# Altium schematic symbol library WCAP-AS5H.SchLib: 50 symbols
Pins are listed as number, name and electrical type; pins without a type are passive.

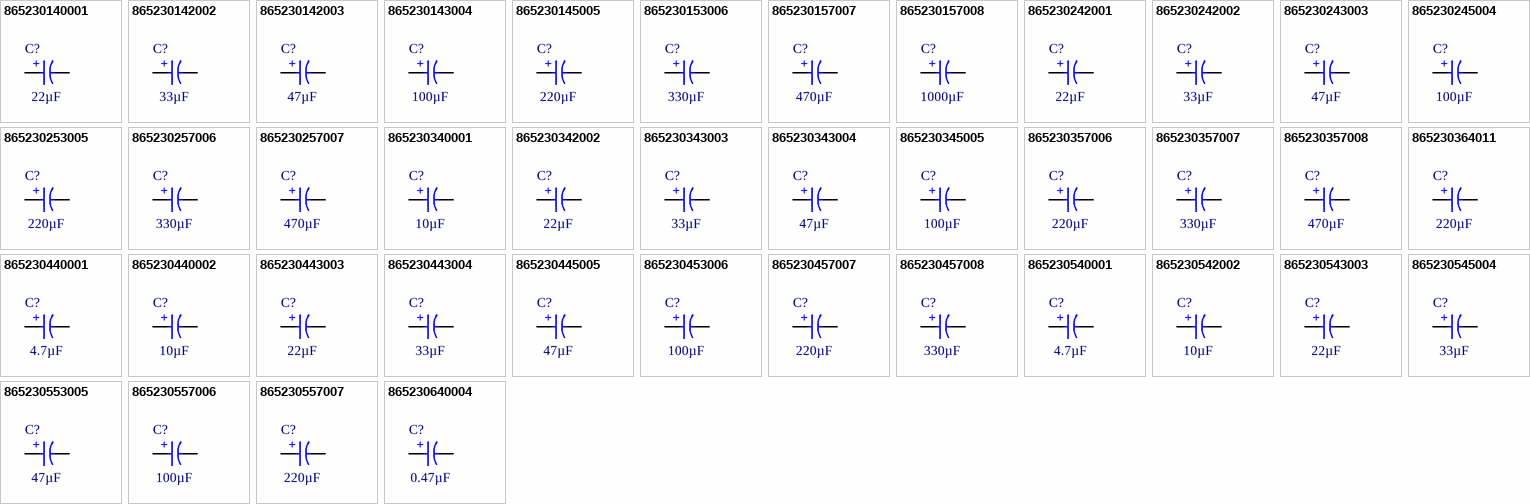
[diagram p0: symbols 865230140001 to 865230640004]

## 865230140001
designator C?, comment 22µF
WCAP-AS5H Aluminum Electrolytic Capacitor, V-Chip, D4 x H5.5mm, 22µF, 6.3V; Manufacturer Part Number: 865230140001; Manufacturer: Wurth Elektronik; Capacitance Tolerance: +/-20%; Dissipation Factor: 32%; Endurance: 5000h; Leakage Current: 3µA; Ripple Current: 22mA; Category: Aluminum Electrolytic Capacitors; Match Code: WCAP-AS5H; ComponentLink1Description: Website Link; ComponentLink1URL: https://www.we-online.com/redexpert/article/865230140001?ad; ComponentLink2Description: Datasheet Link; ComponentLink2URL: https://www.we-online.com/redexpert/spec/865230140001?ad; Mount: Surface Mount; Min Operating Temperature: -40°C; Max Operating Temperature: 105°C; Packaging: Tape and Reel; Height: 5.5mm; Diameter: 4mm; Capacitance: 22µF; Rated Voltage (DC): 6.3V
footprint WCAP-AS5H_D4H5.5
simulation model 865230140001_22uF
pins: 1 P, 2 N
text: +

## 865230142002
designator C?, comment 33µF
WCAP-AS5H Aluminum Electrolytic Capacitor, V-Chip, D5 x H5.5mm, 33µF, 6.3V; Manufacturer Part Number: 865230142002; Manufacturer: Wurth Elektronik; Capacitance Tolerance: +/-20%; Dissipation Factor: 32%; Endurance: 5000h; Leakage Current: 3µA; Ripple Current: 32mA; Category: Aluminum Electrolytic Capacitors; Match Code: WCAP-AS5H; ComponentLink1Description: Website Link; ComponentLink1URL: https://www.we-online.com/redexpert/article/865230142002?ad; ComponentLink2Description: Datasheet Link; ComponentLink2URL: https://www.we-online.com/redexpert/spec/865230142002?ad; Mount: Surface Mount; Min Operating Temperature: -40°C; Max Operating Temperature: 105°C; Packaging: Tape and Reel; Height: 5.5mm; Diameter: 5mm; Capacitance: 33µF; Rated Voltage (DC): 6.3V
footprint WCAP-AS5H_D5H5.5
simulation model 865230142002_33uF
pins: 1 P, 2 N
text: +

## 865230142003
designator C?, comment 47µF
WCAP-AS5H Aluminum Electrolytic Capacitor, V-Chip, D5 x H5.5mm, 47µF, 6.3V; Manufacturer Part Number: 865230142003; Manufacturer: Wurth Elektronik; Capacitance Tolerance: +/-20%; Dissipation Factor: 32%; Endurance: 5000h; Leakage Current: 3µA; Ripple Current: 36mA; Category: Aluminum Electrolytic Capacitors; Match Code: WCAP-AS5H; ComponentLink1Description: Website Link; ComponentLink1URL: https://www.we-online.com/redexpert/article/865230142003?ad; ComponentLink2Description: Datasheet Link; ComponentLink2URL: https://www.we-online.com/redexpert/spec/865230142003?ad; Mount: Surface Mount; Min Operating Temperature: -40°C; Max Operating Temperature: 105°C; Packaging: Tape and Reel; Height: 5.5mm; Diameter: 5mm; Capacitance: 47µF; Rated Voltage (DC): 6.3V
footprint WCAP-AS5H_D5H5.5
simulation model 865230142003_47uF
pins: 1 P, 2 N
text: +

## 865230143004
designator C?, comment 100µF
WCAP-AS5H Aluminum Electrolytic Capacitor, V-Chip, D6.3 x H5.5mm, 100µF, 6.3V; Manufacturer Part Number: 865230143004; Manufacturer: Wurth Elektronik; Capacitance Tolerance: +/-20%; Dissipation Factor: 32%; Endurance: 5000h; Leakage Current: 6.3µA; Ripple Current: 60mA; Category: Aluminum Electrolytic Capacitors; Match Code: WCAP-AS5H; ComponentLink1Description: Website Link; ComponentLink1URL: https://www.we-online.com/redexpert/article/865230143004?ad; ComponentLink2Description: Datasheet Link; ComponentLink2URL: https://www.we-online.com/redexpert/spec/865230143004?ad; Mount: Surface Mount; Min Operating Temperature: -40°C; Max Operating Temperature: 105°C; Packaging: Tape and Reel; Height: 5.5mm; Diameter: 6.3mm; Capacitance: 100µF; Rated Voltage (DC): 6.3V
footprint WCAP-AS5H_D6.3H5.5
simulation model 865230143004_100uF
pins: 1 P, 2 N
text: +

## 865230145005
designator C?, comment 220µF
WCAP-AS5H Aluminum Electrolytic Capacitor, V-Chip, D6.3 x H7.7mm, 220µF, 6.3V; Manufacturer Part Number: 865230145005; Manufacturer: Wurth Elektronik; Capacitance Tolerance: +/-20%; Dissipation Factor: 32%; Endurance: 5000h; Leakage Current: 13.86µA; Ripple Current: 110mA; Category: Aluminum Electrolytic Capacitors; Match Code: WCAP-AS5H; ComponentLink1Description: Website Link; ComponentLink1URL: https://www.we-online.com/redexpert/article/865230145005?ad; ComponentLink2Description: Datasheet Link; ComponentLink2URL: https://www.we-online.com/redexpert/spec/865230145005?ad; Mount: Surface Mount; Min Operating Temperature: -40°C; Max Operating Temperature: 105°C; Packaging: Tape and Reel; Height: 7.7mm; Diameter: 6.3mm; Capacitance: 220µF; Rated Voltage (DC): 6.3V
footprint WCAP-AS5H_D6.3H7.7
simulation model 865230145005_220uF
pins: 1 P, 2 N
text: +

## 865230153006
designator C?, comment 330µF
WCAP-AS5H Aluminum Electrolytic Capacitor, V-Chip, D8 x H10.5mm, 330µF, 6.3V; Manufacturer Part Number: 865230153006; Manufacturer: Wurth Elektronik; Capacitance Tolerance: +/-20%; Dissipation Factor: 32%; Endurance: 5000h; Leakage Current: 20.79µA; Ripple Current: 160mA; Category: Aluminum Electrolytic Capacitors; Match Code: WCAP-AS5H; ComponentLink1Description: Website Link; ComponentLink1URL: https://www.we-online.com/redexpert/article/865230153006?ad; ComponentLink2Description: Datasheet Link; ComponentLink2URL: https://www.we-online.com/redexpert/spec/865230153006?ad; Mount: Surface Mount; Min Operating Temperature: -40°C; Max Operating Temperature: 105°C; Packaging: Tape and Reel; Height: 10.5mm; Diameter: 8mm; Capacitance: 330µF; Rated Voltage (DC): 6.3V
footprint WCAP-AS5H_D8H10.5
simulation model 865230153006_330uF
pins: 1 P, 2 N
text: +

## 865230157007
designator C?, comment 470µF
WCAP-AS5H Aluminum Electrolytic Capacitor, V-Chip, D10 x H10.5mm, 470µF, 6.3V; Manufacturer Part Number: 865230157007; Manufacturer: Wurth Elektronik; Capacitance Tolerance: +/-20%; Dissipation Factor: 32%; Endurance: 5000h; Leakage Current: 29.61µA; Ripple Current: 260mA; Category: Aluminum Electrolytic Capacitors; Match Code: WCAP-AS5H; ComponentLink1Description: Website Link; ComponentLink1URL: https://www.we-online.com/redexpert/article/865230157007?ad; ComponentLink2Description: Datasheet Link; ComponentLink2URL: https://www.we-online.com/redexpert/spec/865230157007?ad; Mount: Surface Mount; Min Operating Temperature: -40°C; Max Operating Temperature: 105°C; Packaging: Tape and Reel; Height: 10.5mm; Diameter: 10mm; Capacitance: 470µF; Rated Voltage (DC): 6.3V
footprint WCAP-AS5H_D10H10.5
simulation model 865230157007_470uF
pins: 1 P, 2 N
text: +

## 865230157008
designator C?, comment 1000µF
WCAP-AS5H Aluminum Electrolytic Capacitor, V-Chip, D10 x H10.5mm, 1000µF, 6.3V; Manufacturer Part Number: 865230157008; Manufacturer: Wurth Elektronik; Capacitance Tolerance: +/-20%; Dissipation Factor: 32%; Endurance: 5000h; Leakage Current: 63µA; Ripple Current: 340mA; Category: Aluminum Electrolytic Capacitors; Match Code: WCAP-AS5H; ComponentLink1Description: Website Link; ComponentLink1URL: https://www.we-online.com/redexpert/article/865230157008?ad; ComponentLink2Description: Datasheet Link; ComponentLink2URL: https://www.we-online.com/redexpert/spec/865230157008?ad; Mount: Surface Mount; Min Operating Temperature: -40°C; Max Operating Temperature: 105°C; Packaging: Tape and Reel; Height: 10.5mm; Diameter: 10mm; Capacitance: 1000µF; Rated Voltage (DC): 6.3V
footprint WCAP-AS5H_D10H10.5
simulation model 865230157008_1mF
pins: 1 P, 2 N
text: +

## 865230242001
designator C?, comment 22µF
WCAP-AS5H Aluminum Electrolytic Capacitor, V-Chip, D5 x H5.5mm, 22µF, 10V; Manufacturer Part Number: 865230242001; Manufacturer: Wurth Elektronik; Capacitance Tolerance: +/-20%; Dissipation Factor: 28%; Endurance: 5000h; Leakage Current: 3µA; Ripple Current: 28mA; Category: Aluminum Electrolytic Capacitors; Match Code: WCAP-AS5H; ComponentLink1Description: Website Link; ComponentLink1URL: https://www.we-online.com/redexpert/article/865230242001?ad; ComponentLink2Description: Datasheet Link; ComponentLink2URL: https://www.we-online.com/redexpert/spec/865230242001?ad; Mount: Surface Mount; Min Operating Temperature: -40°C; Max Operating Temperature: 105°C; Packaging: Tape and Reel; Height: 5.5mm; Diameter: 5mm; Capacitance: 22µF; Rated Voltage (DC): 10V
footprint WCAP-AS5H_D5H5.5
simulation model 865230242001_22uF
pins: 1 P, 2 N
text: +

## 865230242002
designator C?, comment 33µF
WCAP-AS5H Aluminum Electrolytic Capacitor, V-Chip, D5 x H5.5mm, 33µF, 10V; Manufacturer Part Number: 865230242002; Manufacturer: Wurth Elektronik; Capacitance Tolerance: +/-20%; Dissipation Factor: 28%; Endurance: 5000h; Leakage Current: 3.3µA; Ripple Current: 34mA; Category: Aluminum Electrolytic Capacitors; Match Code: WCAP-AS5H; ComponentLink1Description: Website Link; ComponentLink1URL: https://www.we-online.com/redexpert/article/865230242002?ad; ComponentLink2Description: Datasheet Link; ComponentLink2URL: https://www.we-online.com/redexpert/spec/865230242002?ad; Mount: Surface Mount; Min Operating Temperature: -40°C; Max Operating Temperature: 105°C; Packaging: Tape and Reel; Height: 5.5mm; Diameter: 5mm; Capacitance: 33µF; Rated Voltage (DC): 10V
footprint WCAP-AS5H_D5H5.5
simulation model 865230242002_33uF
pins: 1 P, 2 N
text: +

## 865230243003
designator C?, comment 47µF
WCAP-AS5H Aluminum Electrolytic Capacitor, V-Chip, D6.3 x H5.5mm, 47µF, 10V; Manufacturer Part Number: 865230243003; Manufacturer: Wurth Elektronik; Capacitance Tolerance: +/-20%; Dissipation Factor: 28%; Endurance: 5000h; Leakage Current: 4.7µA; Ripple Current: 48mA; Category: Aluminum Electrolytic Capacitors; Match Code: WCAP-AS5H; ComponentLink1Description: Website Link; ComponentLink1URL: https://www.we-online.com/redexpert/article/865230243003?ad; ComponentLink2Description: Datasheet Link; ComponentLink2URL: https://www.we-online.com/redexpert/spec/865230243003?ad; Mount: Surface Mount; Min Operating Temperature: -40°C; Max Operating Temperature: 105°C; Packaging: Tape and Reel; Height: 5.5mm; Diameter: 6.3mm; Capacitance: 47µF; Rated Voltage (DC): 10V
footprint WCAP-AS5H_D6.3H5.5
simulation model 865230243003_47uF
pins: 1 P, 2 N
text: +

## 865230245004
designator C?, comment 100µF
WCAP-AS5H Aluminum Electrolytic Capacitor, V-Chip, D6.3 x H7.7mm, 100µF, 10V; Manufacturer Part Number: 865230245004; Manufacturer: Wurth Elektronik; Capacitance Tolerance: +/-20%; Dissipation Factor: 28%; Endurance: 5000h; Leakage Current: 10µA; Ripple Current: 79mA; Category: Aluminum Electrolytic Capacitors; Match Code: WCAP-AS5H; ComponentLink1Description: Website Link; ComponentLink1URL: https://www.we-online.com/redexpert/article/865230245004?ad; ComponentLink2Description: Datasheet Link; ComponentLink2URL: https://www.we-online.com/redexpert/spec/865230245004?ad; Mount: Surface Mount; Min Operating Temperature: -40°C; Max Operating Temperature: 105°C; Packaging: Tape and Reel; Height: 7.7mm; Diameter: 6.3mm; Capacitance: 100µF; Rated Voltage (DC): 10V
footprint WCAP-AS5H_D6.3H7.7
simulation model 865230245004_100uF
pins: 1 P, 2 N
text: +

## 865230253005
designator C?, comment 220µF
WCAP-AS5H Aluminum Electrolytic Capacitor, V-Chip, D8 x H10.5mm, 220µF, 10V; Manufacturer Part Number: 865230253005; Manufacturer: Wurth Elektronik; Capacitance Tolerance: +/-20%; Dissipation Factor: 28%; Endurance: 5000h; Leakage Current: 22µA; Ripple Current: 140mA; Category: Aluminum Electrolytic Capacitors; Match Code: WCAP-AS5H; ComponentLink1Description: Website Link; ComponentLink1URL: https://www.we-online.com/redexpert/article/865230253005?ad; ComponentLink2Description: Datasheet Link; ComponentLink2URL: https://www.we-online.com/redexpert/spec/865230253005?ad; Mount: Surface Mount; Min Operating Temperature: -40°C; Max Operating Temperature: 105°C; Packaging: Tape and Reel; Height: 10.5mm; Diameter: 8mm; Capacitance: 220µF; Rated Voltage (DC): 10V
footprint WCAP-AS5H_D8H10.5
simulation model 865230253005_220uF
pins: 1 P, 2 N
text: +

## 865230257006
designator C?, comment 330µF
WCAP-AS5H Aluminum Electrolytic Capacitor, V-Chip, D10 x H10.5mm, 330µF, 10V; Manufacturer Part Number: 865230257006; Manufacturer: Wurth Elektronik; Capacitance Tolerance: +/-20%; Dissipation Factor: 28%; Endurance: 5000h; Leakage Current: 33µA; Ripple Current: 240mA; Category: Aluminum Electrolytic Capacitors; Match Code: WCAP-AS5H; ComponentLink1Description: Website Link; ComponentLink1URL: https://www.we-online.com/redexpert/article/865230257006?ad; ComponentLink2Description: Datasheet Link; ComponentLink2URL: https://www.we-online.com/redexpert/spec/865230257006?ad; Mount: Surface Mount; Min Operating Temperature: -40°C; Max Operating Temperature: 105°C; Packaging: Tape and Reel; Height: 10.5mm; Diameter: 10mm; Capacitance: 330µF; Rated Voltage (DC): 10V
footprint WCAP-AS5H_D10H10.5
simulation model 865230257006_330uF
pins: 1 P, 2 N
text: +

## 865230257007
designator C?, comment 470µF
WCAP-AS5H Aluminum Electrolytic Capacitor, V-Chip, D10 x H10.5mm, 470µF, 10V; Manufacturer Part Number: 865230257007; Manufacturer: Wurth Elektronik; Capacitance Tolerance: +/-20%; Dissipation Factor: 28%; Endurance: 5000h; Leakage Current: 47µA; Ripple Current: 280mA; Category: Aluminum Electrolytic Capacitors; Match Code: WCAP-AS5H; ComponentLink1Description: Website Link; ComponentLink1URL: https://www.we-online.com/redexpert/article/865230257007?ad; ComponentLink2Description: Datasheet Link; ComponentLink2URL: https://www.we-online.com/redexpert/spec/865230257007?ad; Mount: Surface Mount; Min Operating Temperature: -40°C; Max Operating Temperature: 105°C; Packaging: Tape and Reel; Height: 10.5mm; Diameter: 10mm; Capacitance: 470µF; Rated Voltage (DC): 10V
footprint WCAP-AS5H_D10H10.5
simulation model 865230257007_470uF
pins: 1 P, 2 N
text: +

## 865230340001
designator C?, comment 10µF
WCAP-AS5H Aluminum Electrolytic Capacitor, V-Chip, D4 x H5.5mm, 10µF, 16V; Manufacturer Part Number: 865230340001; Manufacturer: Wurth Elektronik; Capacitance Tolerance: +/-20%; Dissipation Factor: 22%; Endurance: 5000h; Leakage Current: 3µA; Ripple Current: 17mA; Category: Aluminum Electrolytic Capacitors; Match Code: WCAP-AS5H; ComponentLink1Description: Website Link; ComponentLink1URL: https://www.we-online.com/redexpert/article/865230340001?ad; ComponentLink2Description: Datasheet Link; ComponentLink2URL: https://www.we-online.com/redexpert/spec/865230340001?ad; Mount: Surface Mount; Min Operating Temperature: -40°C; Max Operating Temperature: 105°C; Packaging: Tape and Reel; Height: 5.5mm; Diameter: 4mm; Capacitance: 10µF; Rated Voltage (DC): 16V
footprint WCAP-AS5H_D4H5.5
simulation model 865230340001_10uF
pins: 1 P, 2 N
text: +

## 865230342002
designator C?, comment 22µF
WCAP-AS5H Aluminum Electrolytic Capacitor, V-Chip, D5 x H5.5mm, 22µF, 16V; Manufacturer Part Number: 865230342002; Manufacturer: Wurth Elektronik; Capacitance Tolerance: +/-20%; Dissipation Factor: 22%; Endurance: 5000h; Leakage Current: 3.52µA; Ripple Current: 30mA; Category: Aluminum Electrolytic Capacitors; Match Code: WCAP-AS5H; ComponentLink1Description: Website Link; ComponentLink1URL: https://www.we-online.com/redexpert/article/865230342002?ad; ComponentLink2Description: Datasheet Link; ComponentLink2URL: https://www.we-online.com/redexpert/spec/865230342002?ad; Mount: Surface Mount; Min Operating Temperature: -40°C; Max Operating Temperature: 105°C; Packaging: Tape and Reel; Height: 5.5mm; Diameter: 5mm; Capacitance: 22µF; Rated Voltage (DC): 16V
footprint WCAP-AS5H_D5H5.5
simulation model 865230342002_22uF
pins: 1 P, 2 N
text: +

## 865230343003
designator C?, comment 33µF
WCAP-AS5H Aluminum Electrolytic Capacitor, V-Chip, D6.3 x H5.5mm, 33µF, 16V; Manufacturer Part Number: 865230343003; Manufacturer: Wurth Elektronik; Capacitance Tolerance: +/-20%; Dissipation Factor: 22%; Endurance: 5000h; Leakage Current: 5.28µA; Ripple Current: 44mA; Category: Aluminum Electrolytic Capacitors; Match Code: WCAP-AS5H; ComponentLink1Description: Website Link; ComponentLink1URL: https://www.we-online.com/redexpert/article/865230343003?ad; ComponentLink2Description: Datasheet Link; ComponentLink2URL: https://www.we-online.com/redexpert/spec/865230343003?ad; Mount: Surface Mount; Min Operating Temperature: -40°C; Max Operating Temperature: 105°C; Packaging: Tape and Reel; Height: 5.5mm; Diameter: 6.3mm; Capacitance: 33µF; Rated Voltage (DC): 16V
footprint WCAP-AS5H_D6.3H5.5
simulation model 865230343003_33uF
pins: 1 P, 2 N
text: +

## 865230343004
designator C?, comment 47µF
WCAP-AS5H Aluminum Electrolytic Capacitor, V-Chip, D6.3 x H5.5mm, 47µF, 16V; Manufacturer Part Number: 865230343004; Manufacturer: Wurth Elektronik; Capacitance Tolerance: +/-20%; Dissipation Factor: 22%; Endurance: 5000h; Leakage Current: 7.52µA; Ripple Current: 50mA; Category: Aluminum Electrolytic Capacitors; Match Code: WCAP-AS5H; ComponentLink1Description: Website Link; ComponentLink1URL: https://www.we-online.com/redexpert/article/865230343004?ad; ComponentLink2Description: Datasheet Link; ComponentLink2URL: https://www.we-online.com/redexpert/spec/865230343004?ad; Mount: Surface Mount; Min Operating Temperature: -40°C; Max Operating Temperature: 105°C; Packaging: Tape and Reel; Height: 5.5mm; Diameter: 6.3mm; Capacitance: 47µF; Rated Voltage (DC): 16V
footprint WCAP-AS5H_D6.3H5.5
simulation model 865230343004_47uF
pins: 1 P, 2 N
text: +

## 865230345005
designator C?, comment 100µF
WCAP-AS5H Aluminum Electrolytic Capacitor, V-Chip, D6.3 x H7.7mm, 100µF, 16V; Manufacturer Part Number: 865230345005; Manufacturer: Wurth Elektronik; Capacitance Tolerance: +/-20%; Dissipation Factor: 22%; Endurance: 5000h; Leakage Current: 16µA; Ripple Current: 81mA; Category: Aluminum Electrolytic Capacitors; Match Code: WCAP-AS5H; ComponentLink1Description: Website Link; ComponentLink1URL: https://www.we-online.com/redexpert/article/865230345005?ad; ComponentLink2Description: Datasheet Link; ComponentLink2URL: https://www.we-online.com/redexpert/spec/865230345005?ad; Mount: Surface Mount; Min Operating Temperature: -40°C; Max Operating Temperature: 105°C; Packaging: Tape and Reel; Height: 7.7mm; Diameter: 6.3mm; Capacitance: 100µF; Rated Voltage (DC): 16V
footprint WCAP-AS5H_D6.3H7.7
simulation model 865230345005_100uF
pins: 1 P, 2 N
text: +

## 865230357006
designator C?, comment 220µF
WCAP-AS5H Aluminum Electrolytic Capacitor, V-Chip, D10 x H10.5mm, 220µF, 16V; Manufacturer Part Number: 865230357006; Manufacturer: Wurth Elektronik; Capacitance Tolerance: +/-20%; Dissipation Factor: 22%; Endurance: 5000h; Leakage Current: 35.2µA; Ripple Current: 216mA; Category: Aluminum Electrolytic Capacitors; Match Code: WCAP-AS5H; ComponentLink1Description: Website Link; ComponentLink1URL: https://www.we-online.com/redexpert/article/865230357006?ad; ComponentLink2Description: Datasheet Link; ComponentLink2URL: https://www.we-online.com/redexpert/spec/865230357006?ad; Mount: Surface Mount; Min Operating Temperature: -40°C; Max Operating Temperature: 105°C; Packaging: Tape and Reel; Height: 10.5mm; Diameter: 10mm; Capacitance: 220µF; Rated Voltage (DC): 16V
footprint WCAP-AS5H_D10H10.5
simulation model 865230357006_220uF
pins: 1 P, 2 N
text: +

## 865230357007
designator C?, comment 330µF
WCAP-AS5H Aluminum Electrolytic Capacitor, V-Chip, D10 x H10.5mm, 330µF, 16V; Manufacturer Part Number: 865230357007; Manufacturer: Wurth Elektronik; Capacitance Tolerance: +/-20%; Dissipation Factor: 22%; Endurance: 5000h; Leakage Current: 52.8µA; Ripple Current: 300mA; Category: Aluminum Electrolytic Capacitors; Match Code: WCAP-AS5H; ComponentLink1Description: Website Link; ComponentLink1URL: https://www.we-online.com/redexpert/article/865230357007?ad; ComponentLink2Description: Datasheet Link; ComponentLink2URL: https://www.we-online.com/redexpert/spec/865230357007?ad; Mount: Surface Mount; Min Operating Temperature: -40°C; Max Operating Temperature: 105°C; Packaging: Tape and Reel; Height: 10.5mm; Diameter: 10mm; Capacitance: 330µF; Rated Voltage (DC): 16V
footprint WCAP-AS5H_D10H10.5
simulation model 865230357007_330uF
pins: 1 P, 2 N
text: +

## 865230357008
designator C?, comment 470µF
WCAP-AS5H Aluminum Electrolytic Capacitor, V-Chip, D10 x H10.5mm, 470µF, 16V; Manufacturer Part Number: 865230357008; Manufacturer: Wurth Elektronik; Capacitance Tolerance: +/-20%; Dissipation Factor: 22%; Endurance: 5000h; Leakage Current: 75.2µA; Ripple Current: 320mA; Category: Aluminum Electrolytic Capacitors; Match Code: WCAP-AS5H; ComponentLink1Description: Website Link; ComponentLink1URL: https://www.we-online.com/redexpert/article/865230357008?ad; ComponentLink2Description: Datasheet Link; ComponentLink2URL: https://www.we-online.com/redexpert/spec/865230357008?ad; Mount: Surface Mount; Min Operating Temperature: -40°C; Max Operating Temperature: 105°C; Packaging: Tape and Reel; Height: 10.5mm; Diameter: 10mm; Capacitance: 470µF; Rated Voltage (DC): 16V
footprint WCAP-AS5H_D10H10.5
simulation model 865230357008_470uF
pins: 1 P, 2 N
text: +

## 865230364011
designator C?, comment 220µF
WCAP-AS5H Aluminum Electrolytic Capacitor, V-Chip, D6.3 x H5.8mm, 220µF, 16V; Manufacturer Part Number: 865230364011; Manufacturer: Wurth Elektronik; Capacitance Tolerance: +/-20%; Dissipation Factor: 16%; Endurance: 2000h; Leakage Current: 35.2µA; Ripple Current: 300mA; Category: Aluminum Electrolytic Capacitors; Match Code: WCAP-AS5H; ComponentLink1Description: Website Link; ComponentLink1URL: https://www.we-online.com/redexpert/article/865230364011?ad; ComponentLink2Description: Datasheet Link; ComponentLink2URL: https://www.we-online.com/redexpert/spec/865230364011?ad; Mount: Surface Mount; Min Operating Temperature: -55°C; Max Operating Temperature: 105°C; Packaging: Tape and Reel; Height: 5.8mm; Diameter: 6.3mm; Capacitance: 220µF; Rated Voltage (DC): 16V
footprint WCAP-AS5H_D6.3H5.8
simulation model 865230364011_220uF
pins: 1 P, 2 N
text: +

## 865230440001
designator C?, comment 4.7µF
WCAP-AS5H Aluminum Electrolytic Capacitor, V-Chip, D4 x H5.5mm, 4.7µF, 25V; Manufacturer Part Number: 865230440001; Manufacturer: Wurth Elektronik; Capacitance Tolerance: +/-20%; Dissipation Factor: 16%; Endurance: 5000h; Leakage Current: 3µA; Ripple Current: 13mA; Category: Aluminum Electrolytic Capacitors; Match Code: WCAP-AS5H; ComponentLink1Description: Website Link; ComponentLink1URL: https://www.we-online.com/redexpert/article/865230440001?ad; ComponentLink2Description: Datasheet Link; ComponentLink2URL: https://www.we-online.com/redexpert/spec/865230440001?ad; Mount: Surface Mount; Min Operating Temperature: -40°C; Max Operating Temperature: 105°C; Packaging: Tape and Reel; Height: 5.5mm; Diameter: 4mm; Capacitance: 4.7µF; Rated Voltage (DC): 25V
footprint WCAP-AS5H_D4H5.5
simulation model 865230440001_4.7uF
pins: 1 P, 2 N
text: +

## 865230440002
designator C?, comment 10µF
WCAP-AS5H Aluminum Electrolytic Capacitor, V-Chip, D4 x H5.5mm, 10µF, 25V; Manufacturer Part Number: 865230440002; Manufacturer: Wurth Elektronik; Capacitance Tolerance: +/-20%; Dissipation Factor: 16%; Endurance: 5000h; Leakage Current: 3µA; Ripple Current: 23mA; Category: Aluminum Electrolytic Capacitors; Match Code: WCAP-AS5H; ComponentLink1Description: Website Link; ComponentLink1URL: https://www.we-online.com/redexpert/article/865230440002?ad; ComponentLink2Description: Datasheet Link; ComponentLink2URL: https://www.we-online.com/redexpert/spec/865230440002?ad; Mount: Surface Mount; Min Operating Temperature: -40°C; Max Operating Temperature: 105°C; Packaging: Tape and Reel; Height: 5.5mm; Diameter: 4mm; Capacitance: 10µF; Rated Voltage (DC): 25V
footprint WCAP-AS5H_D4H5.5
simulation model 865230440002_10uF
pins: 1 P, 2 N
text: +

## 865230443003
designator C?, comment 22µF
WCAP-AS5H Aluminum Electrolytic Capacitor, V-Chip, D6.3 x H5.5mm, 22µF, 25V; Manufacturer Part Number: 865230443003; Manufacturer: Wurth Elektronik; Capacitance Tolerance: +/-20%; Dissipation Factor: 16%; Endurance: 5000h; Leakage Current: 5.5µA; Ripple Current: 40mA; Category: Aluminum Electrolytic Capacitors; Match Code: WCAP-AS5H; ComponentLink1Description: Website Link; ComponentLink1URL: https://www.we-online.com/redexpert/article/865230443003?ad; ComponentLink2Description: Datasheet Link; ComponentLink2URL: https://www.we-online.com/redexpert/spec/865230443003?ad; Mount: Surface Mount; Min Operating Temperature: -40°C; Max Operating Temperature: 105°C; Packaging: Tape and Reel; Height: 5.5mm; Diameter: 6.3mm; Capacitance: 22µF; Rated Voltage (DC): 25V
footprint WCAP-AS5H_D6.3H5.5
simulation model 865230443003_22uF
pins: 1 P, 2 N
text: +

## 865230443004
designator C?, comment 33µF
WCAP-AS5H Aluminum Electrolytic Capacitor, V-Chip, D6.3 x H5.5mm, 33µF, 25V; Manufacturer Part Number: 865230443004; Manufacturer: Wurth Elektronik; Capacitance Tolerance: +/-20%; Dissipation Factor: 16%; Endurance: 5000h; Leakage Current: 8.25µA; Ripple Current: 48mA; Category: Aluminum Electrolytic Capacitors; Match Code: WCAP-AS5H; ComponentLink1Description: Website Link; ComponentLink1URL: https://www.we-online.com/redexpert/article/865230443004?ad; ComponentLink2Description: Datasheet Link; ComponentLink2URL: https://www.we-online.com/redexpert/spec/865230443004?ad; Mount: Surface Mount; Min Operating Temperature: -40°C; Max Operating Temperature: 105°C; Packaging: Tape and Reel; Height: 5.5mm; Diameter: 6.3mm; Capacitance: 33µF; Rated Voltage (DC): 25V
footprint WCAP-AS5H_D6.3H5.5
simulation model 865230443004_33uF
pins: 1 P, 2 N
text: +

## 865230445005
designator C?, comment 47µF
WCAP-AS5H Aluminum Electrolytic Capacitor, V-Chip, D6.3 x H7.7mm, 47µF, 25V; Manufacturer Part Number: 865230445005; Manufacturer: Wurth Elektronik; Capacitance Tolerance: +/-20%; Dissipation Factor: 16%; Endurance: 5000h; Leakage Current: 11.75µA; Ripple Current: 63mA; Category: Aluminum Electrolytic Capacitors; Match Code: WCAP-AS5H; ComponentLink1Description: Website Link; ComponentLink1URL: https://www.we-online.com/redexpert/article/865230445005?ad; ComponentLink2Description: Datasheet Link; ComponentLink2URL: https://www.we-online.com/redexpert/spec/865230445005?ad; Mount: Surface Mount; Min Operating Temperature: -40°C; Max Operating Temperature: 105°C; Packaging: Tape and Reel; Height: 7.7mm; Diameter: 6.3mm; Capacitance: 47µF; Rated Voltage (DC): 25V
footprint WCAP-AS5H_D6.3H7.7
simulation model 865230445005_47uF
pins: 1 P, 2 N
text: +

## 865230453006
designator C?, comment 100µF
WCAP-AS5H Aluminum Electrolytic Capacitor, V-Chip, D8 x H10.5mm, 100µF, 25V; Manufacturer Part Number: 865230453006; Manufacturer: Wurth Elektronik; Capacitance Tolerance: +/-20%; Dissipation Factor: 16%; Endurance: 5000h; Leakage Current: 25µA; Ripple Current: 116mA; Category: Aluminum Electrolytic Capacitors; Match Code: WCAP-AS5H; ComponentLink1Description: Website Link; ComponentLink1URL: https://www.we-online.com/redexpert/article/865230453006?ad; ComponentLink2Description: Datasheet Link; ComponentLink2URL: https://www.we-online.com/redexpert/spec/865230453006?ad; Mount: Surface Mount; Min Operating Temperature: -40°C; Max Operating Temperature: 105°C; Packaging: Tape and Reel; Height: 10.5mm; Diameter: 8mm; Capacitance: 100µF; Rated Voltage (DC): 25V
footprint WCAP-AS5H_D8H10.5
simulation model 865230453006_100uF
pins: 1 P, 2 N
text: +

## 865230457007
designator C?, comment 220µF
WCAP-AS5H Aluminum Electrolytic Capacitor, V-Chip, D10 x H10.5mm, 220µF, 25V; Manufacturer Part Number: 865230457007; Manufacturer: Wurth Elektronik; Capacitance Tolerance: +/-20%; Dissipation Factor: 16%; Endurance: 5000h; Leakage Current: 55µA; Ripple Current: 240mA; Category: Aluminum Electrolytic Capacitors; Match Code: WCAP-AS5H; ComponentLink1Description: Website Link; ComponentLink1URL: https://www.we-online.com/redexpert/article/865230457007?ad; ComponentLink2Description: Datasheet Link; ComponentLink2URL: https://www.we-online.com/redexpert/spec/865230457007?ad; Mount: Surface Mount; Min Operating Temperature: -40°C; Max Operating Temperature: 105°C; Packaging: Tape and Reel; Height: 10.5mm; Diameter: 10mm; Capacitance: 220µF; Rated Voltage (DC): 25V
footprint WCAP-AS5H_D10H10.5
simulation model 865230457007_220uF
pins: 1 P, 2 N
text: +

## 865230457008
designator C?, comment 330µF
WCAP-AS5H Aluminum Electrolytic Capacitor, V-Chip, D10 x H10.5mm, 330µF, 25V; Manufacturer Part Number: 865230457008; Manufacturer: Wurth Elektronik; Capacitance Tolerance: +/-20%; Dissipation Factor: 16%; Endurance: 5000h; Leakage Current: 82.5µA; Ripple Current: 375mA; Category: Aluminum Electrolytic Capacitors; Match Code: WCAP-AS5H; ComponentLink1Description: Website Link; ComponentLink1URL: https://www.we-online.com/redexpert/article/865230457008?ad; ComponentLink2Description: Datasheet Link; ComponentLink2URL: https://www.we-online.com/redexpert/spec/865230457008?ad; Mount: Surface Mount; Min Operating Temperature: -40°C; Max Operating Temperature: 105°C; Packaging: Tape and Reel; Height: 10.5mm; Diameter: 10mm; Capacitance: 330µF; Rated Voltage (DC): 25V
footprint WCAP-AS5H_D10H10.5
simulation model 865230457008_330uF
pins: 1 P, 2 N
text: +

## 865230540001
designator C?, comment 4.7µF
WCAP-AS5H Aluminum Electrolytic Capacitor, V-Chip, D4 x H5.5mm, 4.7µF, 35V; Manufacturer Part Number: 865230540001; Manufacturer: Wurth Elektronik; Capacitance Tolerance: +/-20%; Dissipation Factor: 13%; Endurance: 5000h; Leakage Current: 3µA; Ripple Current: 15mA; Category: Aluminum Electrolytic Capacitors; Match Code: WCAP-AS5H; ComponentLink1Description: Website Link; ComponentLink1URL: https://www.we-online.com/redexpert/article/865230540001?ad; ComponentLink2Description: Datasheet Link; ComponentLink2URL: https://www.we-online.com/redexpert/spec/865230540001?ad; Mount: Surface Mount; Min Operating Temperature: -40°C; Max Operating Temperature: 105°C; Packaging: Tape and Reel; Height: 5.5mm; Diameter: 4mm; Capacitance: 4.7µF; Rated Voltage (DC): 35V
footprint WCAP-AS5H_D4H5.5
simulation model 865230540001_4.7uF
pins: 1 P, 2 N
text: +

## 865230542002
designator C?, comment 10µF
WCAP-AS5H Aluminum Electrolytic Capacitor, V-Chip, D5 x H5.5mm, 10µF, 35V; Manufacturer Part Number: 865230542002; Manufacturer: Wurth Elektronik; Capacitance Tolerance: +/-20%; Dissipation Factor: 13%; Endurance: 5000h; Leakage Current: 3.5µA; Ripple Current: 25mA; Category: Aluminum Electrolytic Capacitors; Match Code: WCAP-AS5H; ComponentLink1Description: Website Link; ComponentLink1URL: https://www.we-online.com/redexpert/article/865230542002?ad; ComponentLink2Description: Datasheet Link; ComponentLink2URL: https://www.we-online.com/redexpert/spec/865230542002?ad; Mount: Surface Mount; Min Operating Temperature: -40°C; Max Operating Temperature: 105°C; Packaging: Tape and Reel; Height: 5.5mm; Diameter: 5mm; Capacitance: 10µF; Rated Voltage (DC): 35V
footprint WCAP-AS5H_D5H5.5
simulation model 865230542002_10uF
pins: 1 P, 2 N
text: +

## 865230543003
designator C?, comment 22µF
WCAP-AS5H Aluminum Electrolytic Capacitor, V-Chip, D6.3 x H5.5mm, 22µF, 35V; Manufacturer Part Number: 865230543003; Manufacturer: Wurth Elektronik; Capacitance Tolerance: +/-20%; Dissipation Factor: 13%; Endurance: 5000h; Leakage Current: 7.7µA; Ripple Current: 42mA; Category: Aluminum Electrolytic Capacitors; Match Code: WCAP-AS5H; ComponentLink1Description: Website Link; ComponentLink1URL: https://www.we-online.com/redexpert/article/865230543003?ad; ComponentLink2Description: Datasheet Link; ComponentLink2URL: https://www.we-online.com/redexpert/spec/865230543003?ad; Mount: Surface Mount; Min Operating Temperature: -40°C; Max Operating Temperature: 105°C; Packaging: Tape and Reel; Height: 5.5mm; Diameter: 6.3mm; Capacitance: 22µF; Rated Voltage (DC): 35V
footprint WCAP-AS5H_D6.3H5.5
simulation model 865230543003_22uF
pins: 1 P, 2 N
text: +

## 865230545004
designator C?, comment 33µF
WCAP-AS5H Aluminum Electrolytic Capacitor, V-Chip, D6.3 x H7.7mm, 33µF, 35V; Manufacturer Part Number: 865230545004; Manufacturer: Wurth Elektronik; Capacitance Tolerance: +/-20%; Dissipation Factor: 13%; Endurance: 5000h; Leakage Current: 11.55µA; Ripple Current: 57mA; Category: Aluminum Electrolytic Capacitors; Match Code: WCAP-AS5H; ComponentLink1Description: Website Link; ComponentLink1URL: https://www.we-online.com/redexpert/article/865230545004?ad; ComponentLink2Description: Datasheet Link; ComponentLink2URL: https://www.we-online.com/redexpert/spec/865230545004?ad; Mount: Surface Mount; Min Operating Temperature: -40°C; Max Operating Temperature: 105°C; Packaging: Tape and Reel; Height: 7.7mm; Diameter: 6.3mm; Capacitance: 33µF; Rated Voltage (DC): 35V
footprint WCAP-AS5H_D6.3H7.7
simulation model 865230545004_33uF
pins: 1 P, 2 N
text: +

## 865230553005
designator C?, comment 47µF
WCAP-AS5H Aluminum Electrolytic Capacitor, V-Chip, D8 x H10.5mm, 47µF, 35V; Manufacturer Part Number: 865230553005; Manufacturer: Wurth Elektronik; Capacitance Tolerance: +/-20%; Dissipation Factor: 13%; Endurance: 5000h; Leakage Current: 16.45µA; Ripple Current: 92mA; Category: Aluminum Electrolytic Capacitors; Match Code: WCAP-AS5H; ComponentLink1Description: Website Link; ComponentLink1URL: https://www.we-online.com/redexpert/article/865230553005?ad; ComponentLink2Description: Datasheet Link; ComponentLink2URL: https://www.we-online.com/redexpert/spec/865230553005?ad; Mount: Surface Mount; Min Operating Temperature: -40°C; Max Operating Temperature: 105°C; Packaging: Tape and Reel; Height: 10.5mm; Diameter: 8mm; Capacitance: 47µF; Rated Voltage (DC): 35V
footprint WCAP-AS5H_D8H10.5
simulation model 865230553005_47uF
pins: 1 P, 2 N
text: +

## 865230557006
designator C?, comment 100µF
WCAP-AS5H Aluminum Electrolytic Capacitor, V-Chip, D10 x H10.5mm, 100µF, 35V; Manufacturer Part Number: 865230557006; Manufacturer: Wurth Elektronik; Capacitance Tolerance: +/-20%; Dissipation Factor: 13%; Endurance: 5000h; Leakage Current: 35µA; Ripple Current: 150mA; Category: Aluminum Electrolytic Capacitors; Match Code: WCAP-AS5H; ComponentLink1Description: Website Link; ComponentLink1URL: https://www.we-online.com/redexpert/article/865230557006?ad; ComponentLink2Description: Datasheet Link; ComponentLink2URL: https://www.we-online.com/redexpert/spec/865230557006?ad; Mount: Surface Mount; Min Operating Temperature: -40°C; Max Operating Temperature: 105°C; Packaging: Tape and Reel; Height: 10.5mm; Diameter: 10mm; Capacitance: 100µF; Rated Voltage (DC): 35V
footprint WCAP-AS5H_D10H10.5
simulation model 865230557006_100uF
pins: 1 P, 2 N
text: +

## 865230557007
designator C?, comment 220µF
WCAP-AS5H Aluminum Electrolytic Capacitor, V-Chip, D10 x H10.5mm, 220µF, 35V; Manufacturer Part Number: 865230557007; Manufacturer: Wurth Elektronik; Capacitance Tolerance: +/-20%; Dissipation Factor: 13%; Endurance: 5000h; Leakage Current: 77µA; Ripple Current: 280mA; Category: Aluminum Electrolytic Capacitors; Match Code: WCAP-AS5H; ComponentLink1Description: Website Link; ComponentLink1URL: https://www.we-online.com/redexpert/article/865230557007?ad; ComponentLink2Description: Datasheet Link; ComponentLink2URL: https://www.we-online.com/redexpert/spec/865230557007?ad; Mount: Surface Mount; Min Operating Temperature: -40°C; Max Operating Temperature: 105°C; Packaging: Tape and Reel; Height: 10.5mm; Diameter: 10mm; Capacitance: 220µF; Rated Voltage (DC): 35V
footprint WCAP-AS5H_D10H10.5
simulation model 865230557007_220uF
pins: 1 P, 2 N
text: +

## 865230640004
designator C?, comment 0.47µF
WCAP-AS5H Aluminum Electrolytic Capacitor, V-Chip, D4 x H5.5mm, 0.47µF, 50V; Manufacturer Part Number: 865230640004; Manufacturer: Wurth Elektronik; Capacitance Tolerance: +/-20%; Dissipation Factor: 12%; Endurance: 5000h; Leakage Current: 3µA; Ripple Current: 3.8mA; Category: Aluminum Electrolytic Capacitors; Match Code: WCAP-AS5H; ComponentLink1Description: Website Link; ComponentLink1URL: https://www.we-online.com/redexpert/article/865230640004?ad; ComponentLink2Description: Datasheet Link; ComponentLink2URL: https://www.we-online.com/redexpert/spec/865230640004?ad; Mount: Surface Mount; Min Operating Temperature: -40°C; Max Operating Temperature: 105°C; Packaging: Tape and Reel; Height: 5.5mm; Diameter: 4mm; Capacitance: 0.47µF; Rated Voltage (DC): 50V
footprint WCAP-AS5H_D4H5.5
simulation model 865230640004_470nF
pins: 1 P, 2 N
text: +

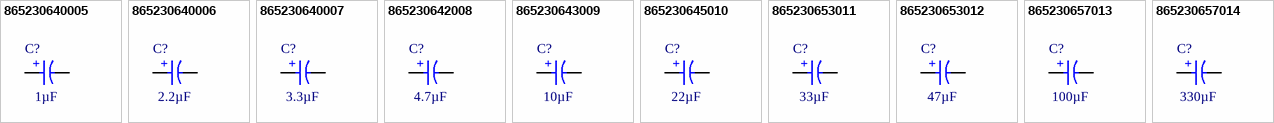
[diagram p1: symbols 865230640005 to 865230657014]

## 865230640005
designator C?, comment 1µF
WCAP-AS5H Aluminum Electrolytic Capacitor, V-Chip, D4 x H5.5mm, 1µF, 50V; Manufacturer Part Number: 865230640005; Manufacturer: Wurth Elektronik; Capacitance Tolerance: +/-20%; Dissipation Factor: 12%; Endurance: 5000h; Leakage Current: 3µA; Ripple Current: 6.2mA; Category: Aluminum Electrolytic Capacitors; Match Code: WCAP-AS5H; ComponentLink1Description: Website Link; ComponentLink1URL: https://www.we-online.com/redexpert/article/865230640005?ad; ComponentLink2Description: Datasheet Link; ComponentLink2URL: https://www.we-online.com/redexpert/spec/865230640005?ad; Mount: Surface Mount; Min Operating Temperature: -40°C; Max Operating Temperature: 105°C; Packaging: Tape and Reel; Height: 5.5mm; Diameter: 4mm; Capacitance: 1µF; Rated Voltage (DC): 50V
footprint WCAP-AS5H_D4H5.5
simulation model 865230640005_1uF
pins: 1 P, 2 N
text: +

## 865230640006
designator C?, comment 2.2µF
WCAP-AS5H Aluminum Electrolytic Capacitor, V-Chip, D4 x H5.5mm, 2.2µF, 50V; Manufacturer Part Number: 865230640006; Manufacturer: Wurth Elektronik; Capacitance Tolerance: +/-20%; Dissipation Factor: 12%; Endurance: 5000h; Leakage Current: 3µA; Ripple Current: 11mA; Category: Aluminum Electrolytic Capacitors; Match Code: WCAP-AS5H; ComponentLink1Description: Website Link; ComponentLink1URL: https://www.we-online.com/redexpert/article/865230640006?ad; ComponentLink2Description: Datasheet Link; ComponentLink2URL: https://www.we-online.com/redexpert/spec/865230640006?ad; Mount: Surface Mount; Min Operating Temperature: -40°C; Max Operating Temperature: 105°C; Packaging: Tape and Reel; Height: 5.5mm; Diameter: 4mm; Capacitance: 2.2µF; Rated Voltage (DC): 50V
footprint WCAP-AS5H_D4H5.5
simulation model 865230640006_2.2uF
pins: 1 P, 2 N
text: +

## 865230640007
designator C?, comment 3.3µF
WCAP-AS5H Aluminum Electrolytic Capacitor, V-Chip, D4 x H5.5mm, 3.3µF, 50V; Manufacturer Part Number: 865230640007; Manufacturer: Wurth Elektronik; Capacitance Tolerance: +/-20%; Dissipation Factor: 12%; Endurance: 5000h; Leakage Current: 3µA; Ripple Current: 14mA; Category: Aluminum Electrolytic Capacitors; Match Code: WCAP-AS5H; ComponentLink1Description: Website Link; ComponentLink1URL: https://www.we-online.com/redexpert/article/865230640007?ad; ComponentLink2Description: Datasheet Link; ComponentLink2URL: https://www.we-online.com/redexpert/spec/865230640007?ad; Mount: Surface Mount; Min Operating Temperature: -40°C; Max Operating Temperature: 105°C; Packaging: Tape and Reel; Height: 5.5mm; Diameter: 4mm; Capacitance: 3.3µF; Rated Voltage (DC): 50V
footprint WCAP-AS5H_D4H5.5
simulation model 865230640007_3.3uF
pins: 1 P, 2 N
text: +

## 865230642008
designator C?, comment 4.7µF
WCAP-AS5H Aluminum Electrolytic Capacitor, V-Chip, D5 x H5.5mm, 4.7µF, 50V; Manufacturer Part Number: 865230642008; Manufacturer: Wurth Elektronik; Capacitance Tolerance: +/-20%; Dissipation Factor: 12%; Endurance: 5000h; Leakage Current: 3µA; Ripple Current: 19mA; Category: Aluminum Electrolytic Capacitors; Match Code: WCAP-AS5H; ComponentLink1Description: Website Link; ComponentLink1URL: https://www.we-online.com/redexpert/article/865230642008?ad; ComponentLink2Description: Datasheet Link; ComponentLink2URL: https://www.we-online.com/redexpert/spec/865230642008?ad; Mount: Surface Mount; Min Operating Temperature: -40°C; Max Operating Temperature: 105°C; Packaging: Tape and Reel; Height: 5.5mm; Diameter: 5mm; Capacitance: 4.7µF; Rated Voltage (DC): 50V
footprint WCAP-AS5H_D5H5.5
simulation model 865230642008_4.7uF
pins: 1 P, 2 N
text: +

## 865230643009
designator C?, comment 10µF
WCAP-AS5H Aluminum Electrolytic Capacitor, V-Chip, D6.3 x H5.5mm, 10µF, 50V; Manufacturer Part Number: 865230643009; Manufacturer: Wurth Elektronik; Capacitance Tolerance: +/-20%; Dissipation Factor: 12%; Endurance: 5000h; Leakage Current: 5µA; Ripple Current: 30mA; Category: Aluminum Electrolytic Capacitors; Match Code: WCAP-AS5H; ComponentLink1Description: Website Link; ComponentLink1URL: https://www.we-online.com/redexpert/article/865230643009?ad; ComponentLink2Description: Datasheet Link; ComponentLink2URL: https://www.we-online.com/redexpert/spec/865230643009?ad; Mount: Surface Mount; Min Operating Temperature: -40°C; Max Operating Temperature: 105°C; Packaging: Tape and Reel; Height: 5.5mm; Diameter: 6.3mm; Capacitance: 10µF; Rated Voltage (DC): 50V
footprint WCAP-AS5H_D6.3H5.5
simulation model 865230643009_10uF
pins: 1 P, 2 N
text: +

## 865230645010
designator C?, comment 22µF
WCAP-AS5H Aluminum Electrolytic Capacitor, V-Chip, D6.3 x H7.7mm, 22µF, 50V; Manufacturer Part Number: 865230645010; Manufacturer: Wurth Elektronik; Capacitance Tolerance: +/-20%; Dissipation Factor: 12%; Endurance: 5000h; Leakage Current: 11µA; Ripple Current: 52mA; Category: Aluminum Electrolytic Capacitors; Match Code: WCAP-AS5H; ComponentLink1Description: Website Link; ComponentLink1URL: https://www.we-online.com/redexpert/article/865230645010?ad; ComponentLink2Description: Datasheet Link; ComponentLink2URL: https://www.we-online.com/redexpert/spec/865230645010?ad; Mount: Surface Mount; Min Operating Temperature: -40°C; Max Operating Temperature: 105°C; Packaging: Tape and Reel; Height: 7.7mm; Diameter: 6.3mm; Capacitance: 22µF; Rated Voltage (DC): 50V
footprint WCAP-AS5H_D6.3H7.7
simulation model 865230645010_22uF
pins: 1 P, 2 N
text: +

## 865230653011
designator C?, comment 33µF
WCAP-AS5H Aluminum Electrolytic Capacitor, V-Chip, D8 x H10.5mm, 33µF, 50V; Manufacturer Part Number: 865230653011; Manufacturer: Wurth Elektronik; Capacitance Tolerance: +/-20%; Dissipation Factor: 12%; Endurance: 5000h; Leakage Current: 16.5µA; Ripple Current: 80mA; Category: Aluminum Electrolytic Capacitors; Match Code: WCAP-AS5H; ComponentLink1Description: Website Link; ComponentLink1URL: https://www.we-online.com/redexpert/article/865230653011?ad; ComponentLink2Description: Datasheet Link; ComponentLink2URL: https://www.we-online.com/redexpert/spec/865230653011?ad; Mount: Surface Mount; Min Operating Temperature: -40°C; Max Operating Temperature: 105°C; Packaging: Tape and Reel; Height: 10.5mm; Diameter: 8mm; Capacitance: 33µF; Rated Voltage (DC): 50V
footprint WCAP-AS5H_D8H10.5
simulation model 865230653011_33uF
pins: 1 P, 2 N
text: +

## 865230653012
designator C?, comment 47µF
WCAP-AS5H Aluminum Electrolytic Capacitor, V-Chip, D8 x H10.5mm, 47µF, 50V; Manufacturer Part Number: 865230653012; Manufacturer: Wurth Elektronik; Capacitance Tolerance: +/-20%; Dissipation Factor: 12%; Endurance: 5000h; Leakage Current: 23.5µA; Ripple Current: 95mA; Category: Aluminum Electrolytic Capacitors; Match Code: WCAP-AS5H; ComponentLink1Description: Website Link; ComponentLink1URL: https://www.we-online.com/redexpert/article/865230653012?ad; ComponentLink2Description: Datasheet Link; ComponentLink2URL: https://www.we-online.com/redexpert/spec/865230653012?ad; Mount: Surface Mount; Min Operating Temperature: -40°C; Max Operating Temperature: 105°C; Packaging: Tape and Reel; Height: 10.5mm; Diameter: 8mm; Capacitance: 47µF; Rated Voltage (DC): 50V
footprint WCAP-AS5H_D8H10.5
simulation model 865230653012_47uF
pins: 1 P, 2 N
text: +

## 865230657013
designator C?, comment 100µF
WCAP-AS5H Aluminum Electrolytic Capacitor, V-Chip, D10 x H10.5mm, 100µF, 50V; Manufacturer Part Number: 865230657013; Manufacturer: Wurth Elektronik; Capacitance Tolerance: +/-20%; Dissipation Factor: 12%; Endurance: 5000h; Leakage Current: 50µA; Ripple Current: 160mA; Category: Aluminum Electrolytic Capacitors; Match Code: WCAP-AS5H; ComponentLink1Description: Website Link; ComponentLink1URL: https://www.we-online.com/redexpert/article/865230657013?ad; ComponentLink2Description: Datasheet Link; ComponentLink2URL: https://www.we-online.com/redexpert/spec/865230657013?ad; Mount: Surface Mount; Min Operating Temperature: -40°C; Max Operating Temperature: 105°C; Packaging: Tape and Reel; Height: 10.5mm; Diameter: 10mm; Capacitance: 100µF; Rated Voltage (DC): 50V
footprint WCAP-AS5H_D10H10.5
simulation model 865230657013_100uF
pins: 1 P, 2 N
text: +

## 865230657014
designator C?, comment 330µF
WCAP-AS5H Aluminum Electrolytic Capacitor, V-Chip, D10 x H10.5mm, 330µF, 50V; Manufacturer Part Number: 865230657014; Manufacturer: Wurth Elektronik; Capacitance Tolerance: +/-20%; Dissipation Factor: 12%; Endurance: 5000h; Leakage Current: 165µA; Ripple Current: 900mA; Category: Aluminum Electrolytic Capacitors; Match Code: WCAP-AS5H; ComponentLink1Description: Website Link; ComponentLink1URL: https://www.we-online.com/redexpert/article/865230657014?ad; ComponentLink2Description: Datasheet Link; ComponentLink2URL: https://www.we-online.com/redexpert/spec/865230657014?ad; Mount: Surface Mount; Min Operating Temperature: -55°C; Max Operating Temperature: 105°C; Packaging: Tape and Reel; Height: 10.5mm; Diameter: 10mm; Capacitance: 330µF; Rated Voltage (DC): 50V
footprint WCAP-AS5H_D10H10.5
simulation model 865230657014_330uF
pins: 1 P, 2 N
text: +